# Altium footprint library QFP_Sq_100P_Side_N.PcbLib: 9 footprints
Each footprint in its own frame and in the unit in brackets; x right, y up, seen from the top. Pads: shape width x height; smd on the part's side, far side on the other; paste and mask are expansions set on the pad; w line width, h text height; cw(c..) or ccw(c..) is an arc to the next point about the centre after c.
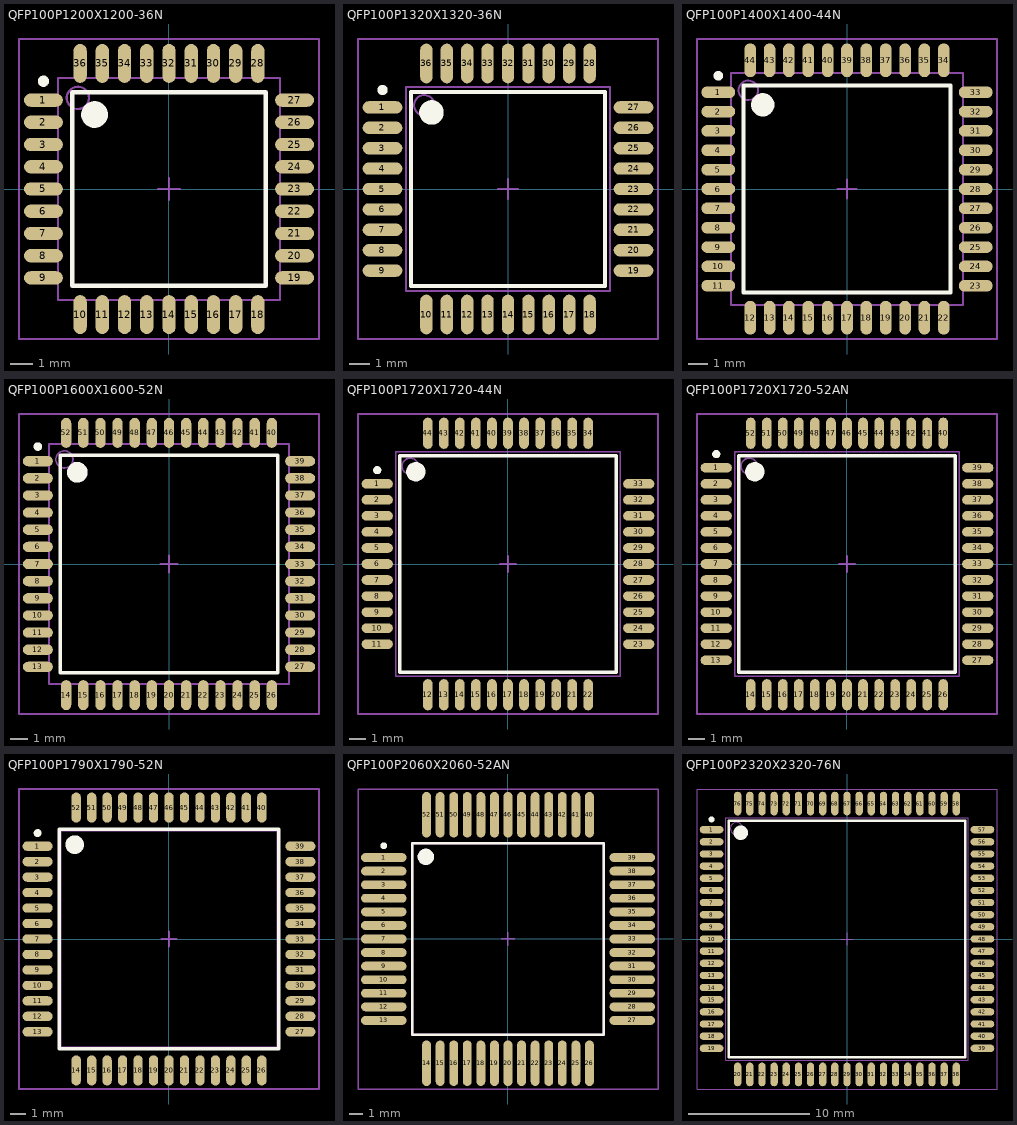
[diagram p0: the footprints below, top view; thin cyan lines are the x and y axes]

## QFP100P1200X1200-36N [mm] "QFP, 36-Leads, Body 10x10mm, Pitch 1mm, IPC Medium Density"
height 1.2
pads (36):
  oval 1.75x0.6 smd: 1(-5.65,4) 2(-5.65,3) 3(-5.65,2) 4(-5.65,1) 5(-5.65,0) 6(-5.65,-1) 7(-5.65,-2) 8(-5.65,-3) 9(-5.65,-4) 19(5.65,-4) 20(5.65,-3) 21(5.65,-2) 22(5.65,-1) 23(5.65,0) 24(5.65,1) 25(5.65,2) 26(5.65,3) 27(5.65,4)
  oval 0.6x1.75 smd: 10(-4,-5.65) 11(-3,-5.65) 12(-2,-5.65) 13(-1,-5.65) 14(0,-5.65) 15(1,-5.65) 16(2,-5.65) 17(3,-5.65) 18(4,-5.65) 28(4,5.65) 29(3,5.65) 30(2,5.65) 31(1,5.65) 32(0,5.65) 33(-1,5.65) 34(-2,5.65) 35(-3,5.65) 36(-4,5.65)
Top Overlay:
  circle w0.6: c-3.35,3.35 r0.3
  circle w0.25: c-5.65,4.85 r0.125
  lines w0.2: -4.35,-4.35 4.35,-4.35 4.35,4.35 -4.35,4.35 -4.35,-4.35
Mechanical 13:
  circle w0.1: c-4.1,4.1 r0.5
  lines w0.1: -5,-5 5,-5 5,5 -5,5 -5,-5
Mechanical 15:
  lines w0.1: -0.5,0 0.5,0 ; 0,-0.5 0,0.5 ; -6.75,-6.75 6.75,-6.75 6.75,6.75 -6.75,6.75 -6.75,-6.75
3D body: height 1.2, standoff 0, extent -5,-5 5,5

## QFP100P1320X1320-36N [mm] "QFP, 36-Leads, Body 10x10mm, Pitch 1mm, IPC Medium Density"
height 2.45
pads (36):
  oval 1.95x0.6 smd: 1(-6.15,4) 2(-6.15,3) 3(-6.15,2) 4(-6.15,1) 5(-6.15,0) 6(-6.15,-1) 7(-6.15,-2) 8(-6.15,-3) 9(-6.15,-4) 19(6.15,-4) 20(6.15,-3) 21(6.15,-2) 22(6.15,-1) 23(6.15,0) 24(6.15,1) 25(6.15,2) 26(6.15,3) 27(6.15,4)
  oval 0.6x1.95 smd: 10(-4,-6.15) 11(-3,-6.15) 12(-2,-6.15) 13(-1,-6.15) 14(0,-6.15) 15(1,-6.15) 16(2,-6.15) 17(3,-6.15) 18(4,-6.15) 28(4,6.15) 29(3,6.15) 30(2,6.15) 31(1,6.15) 32(0,6.15) 33(-1,6.15) 34(-2,6.15) 35(-3,6.15) 36(-4,6.15)
Top Overlay:
  circle w0.6: c-3.75,3.75 r0.3
  circle w0.25: c-6.15,4.85 r0.125
  lines w0.2: -4.75,-4.75 4.75,-4.75 4.75,4.75 -4.75,4.75 -4.75,-4.75
Mechanical 13:
  circle w0.1: c-4.1,4.1 r0.5
  lines w0.1: -5,-5 5,-5 5,5 -5,5 -5,-5
Mechanical 15:
  lines w0.1: -0.5,0 0.5,0 ; 0,-0.5 0,0.5 ; -7.35,-7.35 7.35,-7.35 7.35,7.35 -7.35,7.35 -7.35,-7.35
3D body: height 2.45, standoff 0, extent -5,-5 5,5

## QFP100P1400X1400-44N [mm] "QFP, 44-Leads, Body 12x12mm, Pitch 1mm, IPC Medium Density"
height 1.2
pads (44):
  oval 1.75x0.6 smd: 1(-6.65,5) 2(-6.65,4) 3(-6.65,3) 4(-6.65,2) 5(-6.65,1) 6(-6.65,0) 7(-6.65,-1) 8(-6.65,-2) 9(-6.65,-3) 10(-6.65,-4) 11(-6.65,-5) 23(6.65,-5) 24(6.65,-4) 25(6.65,-3) 26(6.65,-2) 27(6.65,-1) 28(6.65,0) 29(6.65,1) 30(6.65,2) 31(6.65,3) 32(6.65,4) 33(6.65,5)
  oval 0.6x1.75 smd: 12(-5,-6.65) 13(-4,-6.65) 14(-3,-6.65) 15(-2,-6.65) 16(-1,-6.65) 17(0,-6.65) 18(1,-6.65) 19(2,-6.65) 20(3,-6.65) 21(4,-6.65) 22(5,-6.65) 34(5,6.65) 35(4,6.65) 36(3,6.65) 37(2,6.65) 38(1,6.65) 39(0,6.65) 40(-1,6.65) 41(-2,6.65) 42(-3,6.65) 43(-4,6.65) 44(-5,6.65)
Top Overlay:
  circle w0.6: c-4.35,4.35 r0.3
  circle w0.25: c-6.65,5.85 r0.125
  lines w0.2: -5.35,-5.35 5.35,-5.35 5.35,5.35 -5.35,5.35 -5.35,-5.35
Mechanical 13:
  circle w0.1: c-5.1,5.1 r0.5
  lines w0.1: -6,-6 6,-6 6,6 -6,6 -6,-6
Mechanical 15:
  lines w0.1: -0.5,0 0.5,0 ; 0,-0.5 0,0.5 ; -7.75,-7.75 7.75,-7.75 7.75,7.75 -7.75,7.75 -7.75,-7.75
3D body: height 1.2, standoff 0, extent -6,-6 6,6

## QFP100P1600X1600-52N [mm] "QFP, 52-Leads, Body 14x14mm, Pitch 1mm, IPC Medium Density"
height 1.2
pads (52):
  oval 1.75x0.6 smd: 1(-7.65,6) 2(-7.65,5) 3(-7.65,4) 4(-7.65,3) 5(-7.65,2) 6(-7.65,1) 7(-7.65,0) 8(-7.65,-1) 9(-7.65,-2) 10(-7.65,-3) 11(-7.65,-4) 12(-7.65,-5) 13(-7.65,-6) 27(7.65,-6) 28(7.65,-5) 29(7.65,-4) 30(7.65,-3) 31(7.65,-2) 32(7.65,-1) 33(7.65,0) 34(7.65,1) 35(7.65,2) 36(7.65,3) 37(7.65,4) 38(7.65,5) 39(7.65,6)
  oval 0.6x1.75 smd: 14(-6,-7.65) 15(-5,-7.65) 16(-4,-7.65) 17(-3,-7.65) 18(-2,-7.65) 19(-1,-7.65) 20(0,-7.65) 21(1,-7.65) 22(2,-7.65) 23(3,-7.65) 24(4,-7.65) 25(5,-7.65) 26(6,-7.65) 40(6,7.65) 41(5,7.65) 42(4,7.65) 43(3,7.65) 44(2,7.65) 45(1,7.65) 46(0,7.65) 47(-1,7.65) 48(-2,7.65) 49(-3,7.65) 50(-4,7.65) 51(-5,7.65) 52(-6,7.65)
Top Overlay:
  circle w0.6: c-5.35,5.35 r0.3
  circle w0.25: c-7.65,6.85 r0.125
  lines w0.2: -6.35,-6.35 6.35,-6.35 6.35,6.35 -6.35,6.35 -6.35,-6.35
Mechanical 13:
  circle w0.1: c-6.1,6.1 r0.5
  lines w0.1: -7,-7 7,-7 7,7 -7,7 -7,-7
Mechanical 15:
  lines w0.1: -0.5,0 0.5,0 ; 0,-0.5 0,0.5 ; -8.75,-8.75 8.75,-8.75 8.75,8.75 -8.75,8.75 -8.75,-8.75
3D body: height 1.2, standoff 0, extent -7,-7 7,7

## QFP100P1720X1720-44N [mm] "44-Pin Quad Flat Pack 1 mm Pitch"
height 3.4
pads (44):
  oval 1.95x0.6 smd: 1(-8.15,5) 2(-8.15,4) 3(-8.15,3) 4(-8.15,2) 5(-8.15,1) 6(-8.15,0) 7(-8.15,-1) 8(-8.15,-2) 9(-8.15,-3) 10(-8.15,-4) 11(-8.15,-5) 23(8.15,-5) 24(8.15,-4) 25(8.15,-3) 26(8.15,-2) 27(8.15,-1) 28(8.15,0) 29(8.15,1) 30(8.15,2) 31(8.15,3) 32(8.15,4) 33(8.15,5)
  oval 0.6x1.95 smd: 12(-5,-8.15) 13(-4,-8.15) 14(-3,-8.15) 15(-2,-8.15) 16(-1,-8.15) 17(0,-8.15) 18(1,-8.15) 19(2,-8.15) 20(3,-8.15) 21(4,-8.15) 22(5,-8.15) 34(5,8.15) 35(4,8.15) 36(3,8.15) 37(2,8.15) 38(1,8.15) 39(0,8.15) 40(-1,8.15) 41(-2,8.15) 42(-3,8.15) 43(-4,8.15) 44(-5,8.15)
Top Overlay:
  circle w0.6: c-5.75,5.75 r0.3
  circle w0.25: c-8.15,5.85 r0.125
  lines w0.2: -6.75,-6.75 6.75,-6.75 6.75,6.75 -6.75,6.75 -6.75,-6.75
Mechanical 13:
  circle w0.1: c-6.1,6.1 r0.5
  lines w0.1: -7,-7 7,-7 7,7 -7,7 -7,-7
Mechanical 15:
  lines w0.1: -0.5,0 0.5,0 ; 0,-0.5 0,0.5 ; -9.35,-9.35 9.35,-9.35 9.35,9.35 -9.35,9.35 -9.35,-9.35
3D body: height 3.4, standoff 0, extent -7,-7 7,7

## QFP100P1720X1720-52AN [mm] "QFP, 52-Leads, Body 14x14mm, Pitch 1mm, IPC Medium Density"
height 3
pads (52):
  oval 1.95x0.6 smd: 1(-8.15,6) 2(-8.15,5) 3(-8.15,4) 4(-8.15,3) 5(-8.15,2) 6(-8.15,1) 7(-8.15,0) 8(-8.15,-1) 9(-8.15,-2) 10(-8.15,-3) 11(-8.15,-4) 12(-8.15,-5) 13(-8.15,-6) 27(8.15,-6) 28(8.15,-5) 29(8.15,-4) 30(8.15,-3) 31(8.15,-2) 32(8.15,-1) 33(8.15,0) 34(8.15,1) 35(8.15,2) 36(8.15,3) 37(8.15,4) 38(8.15,5) 39(8.15,6)
  oval 0.6x1.95 smd: 14(-6,-8.15) 15(-5,-8.15) 16(-4,-8.15) 17(-3,-8.15) 18(-2,-8.15) 19(-1,-8.15) 20(0,-8.15) 21(1,-8.15) 22(2,-8.15) 23(3,-8.15) 24(4,-8.15) 25(5,-8.15) 26(6,-8.15) 40(6,8.15) 41(5,8.15) 42(4,8.15) 43(3,8.15) 44(2,8.15) 45(1,8.15) 46(0,8.15) 47(-1,8.15) 48(-2,8.15) 49(-3,8.15) 50(-4,8.15) 51(-5,8.15) 52(-6,8.15)
Top Overlay:
  circle w0.25: c-8.15,6.85 r0.125
  circle w0.6: c-5.75,5.75 r0.3
  lines w0.2: -6.75,-6.75 -6.75,6.75 6.75,6.75 6.75,-6.75 -6.75,-6.75
Mechanical 13:
  circle w0.1: c-6.1,6.1 r0.5
  lines w0.1: -7,-7 -7,7 7,7 7,-7 -7,-7
Mechanical 15:
  lines w0.1: -0.5,0 0.5,0 ; 0,-0.5 0,0.5 ; -9.35,-9.35 -9.35,9.35 9.35,9.35 9.35,-9.35 -9.35,-9.35
3D body: height 3, standoff 0, extent -7,-7 7,7

## QFP100P1790X1790-52N [mm] "QFP, 52-Leads, Body 14x14mm, Pitch 1mm, IPC Medium Density"
height 2.45
pads (52):
  oval 1.95x0.6 smd: 1(-8.5,6) 2(-8.5,5) 3(-8.5,4) 4(-8.5,3) 5(-8.5,2) 6(-8.5,1) 7(-8.5,0) 8(-8.5,-1) 9(-8.5,-2) 10(-8.5,-3) 11(-8.5,-4) 12(-8.5,-5) 13(-8.5,-6) 27(8.5,-6) 28(8.5,-5) 29(8.5,-4) 30(8.5,-3) 31(8.5,-2) 32(8.5,-1) 33(8.5,0) 34(8.5,1) 35(8.5,2) 36(8.5,3) 37(8.5,4) 38(8.5,5) 39(8.5,6)
  oval 0.6x1.95 smd: 14(-6,-8.5) 15(-5,-8.5) 16(-4,-8.5) 17(-3,-8.5) 18(-2,-8.5) 19(-1,-8.5) 20(0,-8.5) 21(1,-8.5) 22(2,-8.5) 23(3,-8.5) 24(4,-8.5) 25(5,-8.5) 26(6,-8.5) 40(6,8.5) 41(5,8.5) 42(4,8.5) 43(3,8.5) 44(2,8.5) 45(1,8.5) 46(0,8.5) 47(-1,8.5) 48(-2,8.5) 49(-3,8.5) 50(-4,8.5) 51(-5,8.5) 52(-6,8.5)
Top Overlay:
  circle w0.6: c-6.1,6.1 r0.3
  circle w0.25: c-8.5,6.85 r0.125
  lines w0.2: -7.1,-7.1 7.1,-7.1 7.1,7.1 -7.1,7.1 -7.1,-7.1
Mechanical 13:
  circle w0.1: c-6.1,6.1 r0.5
  lines w0.1: -7,-7 7,-7 7,7 -7,7 -7,-7
Mechanical 15:
  lines w0.1: -0.5,0 0.5,0 ; 0,-0.5 0,0.5 ; -9.7,-9.7 9.7,-9.7 9.7,9.7 -9.7,9.7 -9.7,-9.7
3D body: height 2.45, standoff 0, extent -7,-7 7,7

## QFP100P2060X2060-52AN [mm] "QFP, 52-Leads, Body 14x14mm, Pitch 1mm, IPC Medium Density"
height 2.8
pads (52):
  oval 3.35x0.65 smd: 1(-9.15,6) 2(-9.15,5) 3(-9.15,4) 4(-9.15,3) 5(-9.15,2) 6(-9.15,1) 7(-9.15,0) 8(-9.15,-1) 9(-9.15,-2) 10(-9.15,-3) 11(-9.15,-4) 12(-9.15,-5) 13(-9.15,-6) 27(9.15,-6) 28(9.15,-5) 29(9.15,-4) 30(9.15,-3) 31(9.15,-2) 32(9.15,-1) 33(9.15,0) 34(9.15,1) 35(9.15,2) 36(9.15,3) 37(9.15,4) 38(9.15,5) 39(9.15,6)
  oval 0.65x3.35 smd: 14(-6,-9.15) 15(-5,-9.15) 16(-4,-9.15) 17(-3,-9.15) 18(-2,-9.15) 19(-1,-9.15) 20(0,-9.15) 21(1,-9.15) 22(2,-9.15) 23(3,-9.15) 24(4,-9.15) 25(5,-9.15) 26(6,-9.15) 40(6,9.15) 41(5,9.15) 42(4,9.15) 43(3,9.15) 44(2,9.15) 45(1,9.15) 46(0,9.15) 47(-1,9.15) 48(-2,9.15) 49(-3,9.15) 50(-4,9.15) 51(-5,9.15) 52(-6,9.15)
Top Overlay:
  circle w0.25: c-9.15,6.875 r0.125
  circle w0.6: c-6.05,6.05 r0.3
  lines w0.2: -7.05,-7.05 -7.05,7.05 7.05,7.05 7.05,-7.05 -7.05,-7.05
Mechanical 13:
  circle w0.1: c-6.1,6.1 r0.5
  lines w0.1: -7,-7 -7,7 7,7 7,-7 -7,-7
Mechanical 15:
  lines w0.1: -0.5,0 0.5,0 ; 0,-0.5 0,0.5 ; -11.05,-11.05 -11.05,11.05 11.05,11.05 11.05,-11.05 -11.05,-11.05
3D body: height 2.8, standoff 0, extent -7,-7 7,7

## QFP100P2320X2320-76N [mm] "QFP, 76-Leads, Body 20x20mm, Pitch 1mm, IPC Medium Density"
height 3.4
pads (76):
  oval 1.95x0.6 smd: 1(-11.15,9) 2(-11.15,8) 3(-11.15,7) 4(-11.15,6) 5(-11.15,5) 6(-11.15,4) 7(-11.15,3) 8(-11.15,2) 9(-11.15,1) 10(-11.15,0) 11(-11.15,-1) 12(-11.15,-2) 13(-11.15,-3) 14(-11.15,-4) 15(-11.15,-5) 16(-11.15,-6) 17(-11.15,-7) 18(-11.15,-8) 19(-11.15,-9) 39(11.15,-9) 40(11.15,-8) 41(11.15,-7) 42(11.15,-6) 43(11.15,-5) 44(11.15,-4) 45(11.15,-3) 46(11.15,-2) 47(11.15,-1) 48(11.15,0) 49(11.15,1) 50(11.15,2) 51(11.15,3) 52(11.15,4) 53(11.15,5) 54(11.15,6) 55(11.15,7) 56(11.15,8) 57(11.15,9)
  oval 0.6x1.95 smd: 20(-9,-11.15) 21(-8,-11.15) 22(-7,-11.15) 23(-6,-11.15) 24(-5,-11.15) 25(-4,-11.15) 26(-3,-11.15) 27(-2,-11.15) 28(-1,-11.15) 29(0,-11.15) 30(1,-11.15) 31(2,-11.15) 32(3,-11.15) 33(4,-11.15) 34(5,-11.15) 35(6,-11.15) 36(7,-11.15) 37(8,-11.15) 38(9,-11.15) 58(9,11.15) 59(8,11.15) 60(7,11.15) 61(6,11.15) 62(5,11.15) 63(4,11.15) 64(3,11.15) 65(2,11.15) 66(1,11.15) 67(0,11.15) 68(-1,11.15) 69(-2,11.15) 70(-3,11.15) 71(-4,11.15) 72(-5,11.15) 73(-6,11.15) 74(-7,11.15) 75(-8,11.15) 76(-9,11.15)
Top Overlay:
  circle w0.6: c-8.75,8.75 r0.3
  circle w0.25: c-11.15,9.85 r0.125
  lines w0.2: -9.75,-9.75 9.75,-9.75 9.75,9.75 -9.75,9.75 -9.75,-9.75
Mechanical 13:
  circle w0.1: c-9.1,9.1 r0.5
  lines w0.1: -10,-10 10,-10 10,10 -10,10 -10,-10
Mechanical 15:
  lines w0.1: -0.5,0 0.5,0 ; 0,-0.5 0,0.5 ; -12.35,-12.35 12.35,-12.35 12.35,12.35 -12.35,12.35 -12.35,-12.35
3D body: height 3.4, standoff 0, extent -10,-10 10,10